# Altium footprint library 925-144J-51P.PcbLib: 1 footprints
Each footprint in its own frame and in the unit in brackets; x right, y up, seen from the top. Pads: shape width x height; smd on the part's side, far side on the other; paste and mask are expansions set on the pad; w line width, h text height; cw(c..) or ccw(c..) is an arc to the next point about the centre after c.
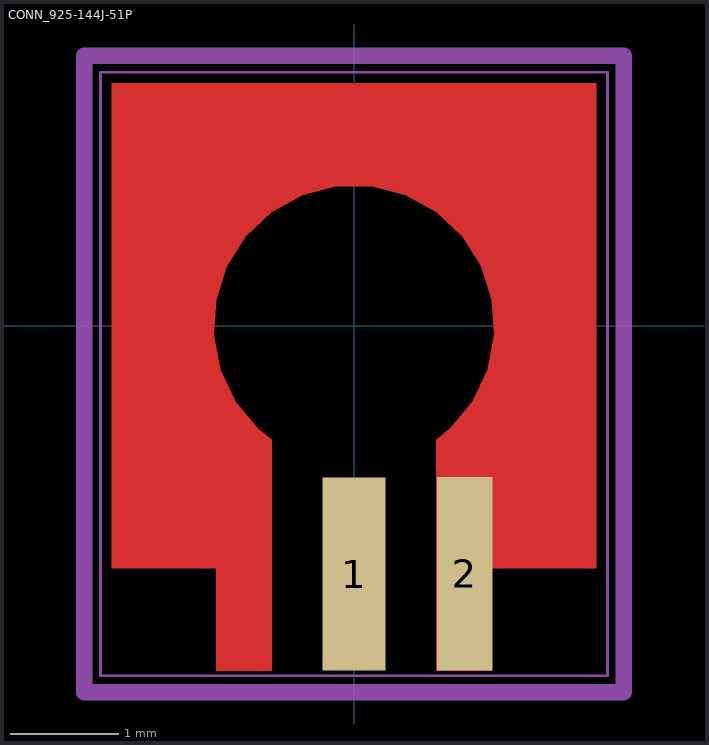
[diagram p0: the footprint, top view; thin cyan lines are the x and y axes]

## CONN_925-144J-51P [mm]
pads (2):
  rect 0.58x1.78 smd: 1(0,-2.29)
  rect 0.51x1.78 smd paste-1.626 mask-1.626: 2(1.02,-2.286)
Top Layer:
  region: -2.235,-2.235 -2.235,2.235 2.235,2.235 2.235,-2.235 1.27,-2.235 1.27,-3.18 0.76,-3.18 0.76,-1.049 0.885,-0.945 1.093,-0.695 1.231,-0.401 1.292,-0.082 1.272,0.242 1.172,0.551 0.998,0.825 0.761,1.047 0.477,1.204 0.162,1.285 -0.162,1.285 -0.477,1.204 -0.761,1.047 -0.998,0.825 -1.172,0.551 -1.272,0.242 -1.292,-0.082 -1.231,-0.401 -1.093,-0.695 -0.885,-0.945 -0.76,-1.049 -0.76,-3.18 -1.27,-3.18 -1.27,-2.235
Top Paste:
  region: -2.032,-1.981 -2.032,-0.254 -1.351,-0.254 -1.328,-0.358 -1.259,-0.559 -1.161,-0.747 -1.037,-0.919 -0.965,-0.998 -0.965,-1.981
  region: 2.057,0.356 2.057,2.032 0.381,2.032 0.381,1.364 0.553,1.299 0.865,1.107 1.121,0.845 1.306,0.529 1.367,0.356
  region: 2.057,-1.981 2.057,-0.254 1.351,-0.254 1.329,-0.353 1.264,-0.546 1.173,-0.727 1.057,-0.894 0.991,-0.971 0.991,-1.981
  region: -2.032,0.381 -2.032,2.032 -0.406,2.032 -0.406,1.356 -0.571,1.291 -0.87,1.103 -1.117,0.851 -1.298,0.547 -1.36,0.381
Mechanical 13:
  lines w0.025: -2.337,-3.226 2.337,-3.226 2.337,2.337 -2.337,2.337 -2.337,-3.226
Mechanical 15:
  lines w0.152: -2.489,-3.378 2.489,-3.378 2.489,2.489 -2.489,2.489 -2.489,-3.378
3D body "925-144J-51P.stp": height 2.74, standoff 0, extent -1.981,-2.87 1.981,1.981